# Altium footprint library HCPL-7800A-300.PcbLib: 1 footprints
Each footprint in its own frame and in the unit in brackets; x right, y up, seen from the top. Pads: shape width x height; smd on the part's side, far side on the other; paste and mask are expansions set on the pad; w line width, h text height; cw(c..) or ccw(c..) is an arc to the next point about the centre after c.
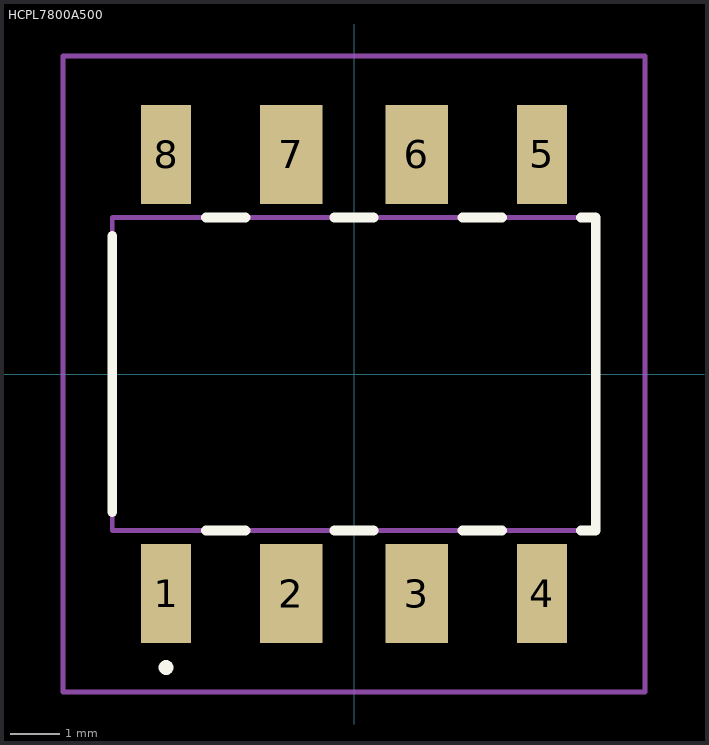
[diagram p0: the footprint, top view; thin cyan lines are the x and y axes]

## HCPL7800A500 [mm]
pads (8):
  rect 1.016x2 smd: 1(-3.81,-4.45) 4(3.81,-4.45) 5(3.81,4.45) 8(-3.81,4.45)
  rect 1.27x2 smd: 2(-1.27,-4.45) 3(1.27,-4.45) 6(1.27,4.45) 7(-1.27,4.45)
Top Overlay:
  lines w0.2: -4.9,-2.8 -4.9,2.8 ; -3,-3.175 -2.2,-3.175 ; -3,3.175 -2.2,3.175 ; -0.4,-3.175 0.4,-3.175 ; -0.4,3.175 0.4,3.175 ; 2.2,-3.175 3,-3.175 ; 2.2,3.175 3,3.175 ; 4.6,-3.175 4.9,-3.175 4.9,3.175 4.6,3.175 ; -3.81,-6 ccw(c-3.81,-5.95) -3.81,-5.9 ; -3.81,-6 cw(c-3.81,-5.95) -3.81,-5.9 ; -3.81,-6 ccw(c-3.81,-5.95) -3.81,-5.9
Mechanical 13:
  lines w0.1: -4.9,-3.175 -4.9,3.175 4.9,3.175 4.9,-3.175 -4.9,-3.175
Mechanical 15:
  lines w0.1: -5.9,-6.45 -5.9,6.45 5.9,6.45 5.9,-6.45 -5.9,-6.45
3D body "HCPL-7800A#500.stp": height 4.45, standoff 0, extent -4.9,-4.825 4.9,4.825